# Altium schematic symbol library UCC12040DVE.SchLib: 1 symbol
Pins are listed as number, name and electrical type; pins without a type are passive.

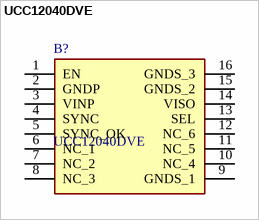
[diagram p0: symbol UCC12040DVE]

## UCC12040DVE
designator B?
Isolated DC/DC Converters 500mW, high efficiency 3kVrms isolated DC-DC converter 16-SO-MOD -40 to 125; Manufacturer_Name: Texas Instruments; Geometry.Height: 2.65mm; Mouser Part Number: 595-UCC12040DVE; Mouser Price/Stock: https://www.mouser.co.uk/ProductDetail/Texas-Instruments/UCC12040DVE?qs=xZ%2FP%252Ba9zWqaWnn41WPN4Eg%3D%3D; Manufacturer_Part_Number: UCC12040DVE; Datasheet Link: https://www.ti.com/lit/gpn/UCC12040
footprint SOIC127P1030X265-16N
pins: 1 EN, 2 GNDP, 3 VINP, 4 SYNC, 5 SYNC_OK, 6 NC_1, 7 NC_2, 8 NC_3, 9 GNDS_1, 10 NC_4, 11 NC_5, 12 NC_6, 13 SEL, 14 VISO, 15 GNDS_2, 16 GNDS_3